# EAGLE library part 1X12_SMD_HEADER (library SyncChannelCustom)
1x12 pin 0.1" Header SMD Digikey Part Number: - Male: S5643-ND
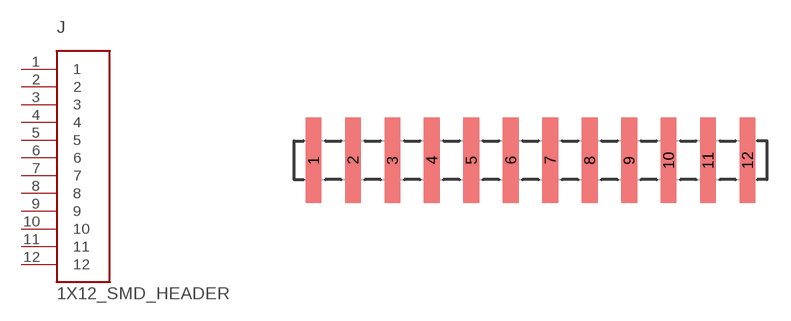
[diagram p3: symbol with the pads of 1X12_SMD_HEADER; footprint 1X12_SMD_HEADER]

Designator prefix J

## 1X12_SMD_HEADER  [1X12_SMD_HEADER]
1  1
2  2
3  3
4  4
5  5
6  6
7  7
8  8
9  9
10  10
11  11
12  12

## Footprint 1X12_SMD_HEADER (pad centres in mm)
smd 1.02 x 5.5: 1 1.27,0; 2 3.81,0; 3 6.35,0; 4 8.89,0; 5 11.43,0; 6 13.97,0; 7 16.51,0; 8 19.05,0; 9 21.59,0; 10 24.13,0; 11 26.67,0; 12 29.21,0